# Altium schematic symbol library DIPSW4.Schlib: 1 symbol
Pins are listed as number, name and electrical type; pins without a type are passive.

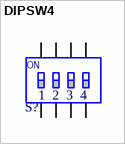
[diagram p0: symbol DIPSW4]

## DIPSW4
designator S?
pins: 1 A1, 2 A2, 3 A3, 4 A4, 5 B4, 6 B3, 7 B2, 8 B1
text: ON; 1  2  3  4